# Altium integrated library 1N4148W-7-F.IntLib: 1 symbol
Pins are listed as number, name and electrical type; pins without a type are passive.

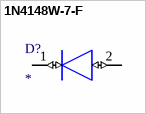
[diagram p0: symbol 1N4148W-7-F]

## 1N4148W-7-F
designator D?
DIODE, SWITCH, 300MA, 100V,SOD123; Diode Configuration:Single; Repetitive Reverse Voltage Vrrm Max:100V; Forward Current If(AV):300mA; Forward Voltage VF Max:1.25V; Reverse Recovery Time trr Max:4ns; Forward Surge Current Ifsm Max:2A; Operating Temperature Max:150Â°C; Diode Case Style:SOD-123; No. of Pins:2Pins; Product Range:1N4148 Series; Automotive Qualification Standard:-; SVHC:No SVHC (15-Jan-2019); Diode Type:Switching; Operating Temperature Min:-65Â°C; Operating Temperature Range:-65Â°C to +150Â°C; MF: Diodes Incorporated; MP: 1N4148W7F; Value: *; Package: None; Availability: In Stock; Check_prices: https://www.snapeda.com/parts/1N4148W7F/Diodes+Inc./view-part/?ref=eda; SnapEDA_Link: https://www.snapeda.com/parts/1N4148W7F/Diodes+Inc./view-part/?ref=snap; Purchase-URL: https://pricing.snapeda.com/search/part/1N4148W7F/?ref=eda; Price: None
footprint SOD3716X115N
pins: 1 K (io), 2 A (io)